# Altium integrated library Connectors other.IntLib: 52 symbols
Pins are listed as number, name and electrical type; pins without a type are passive.

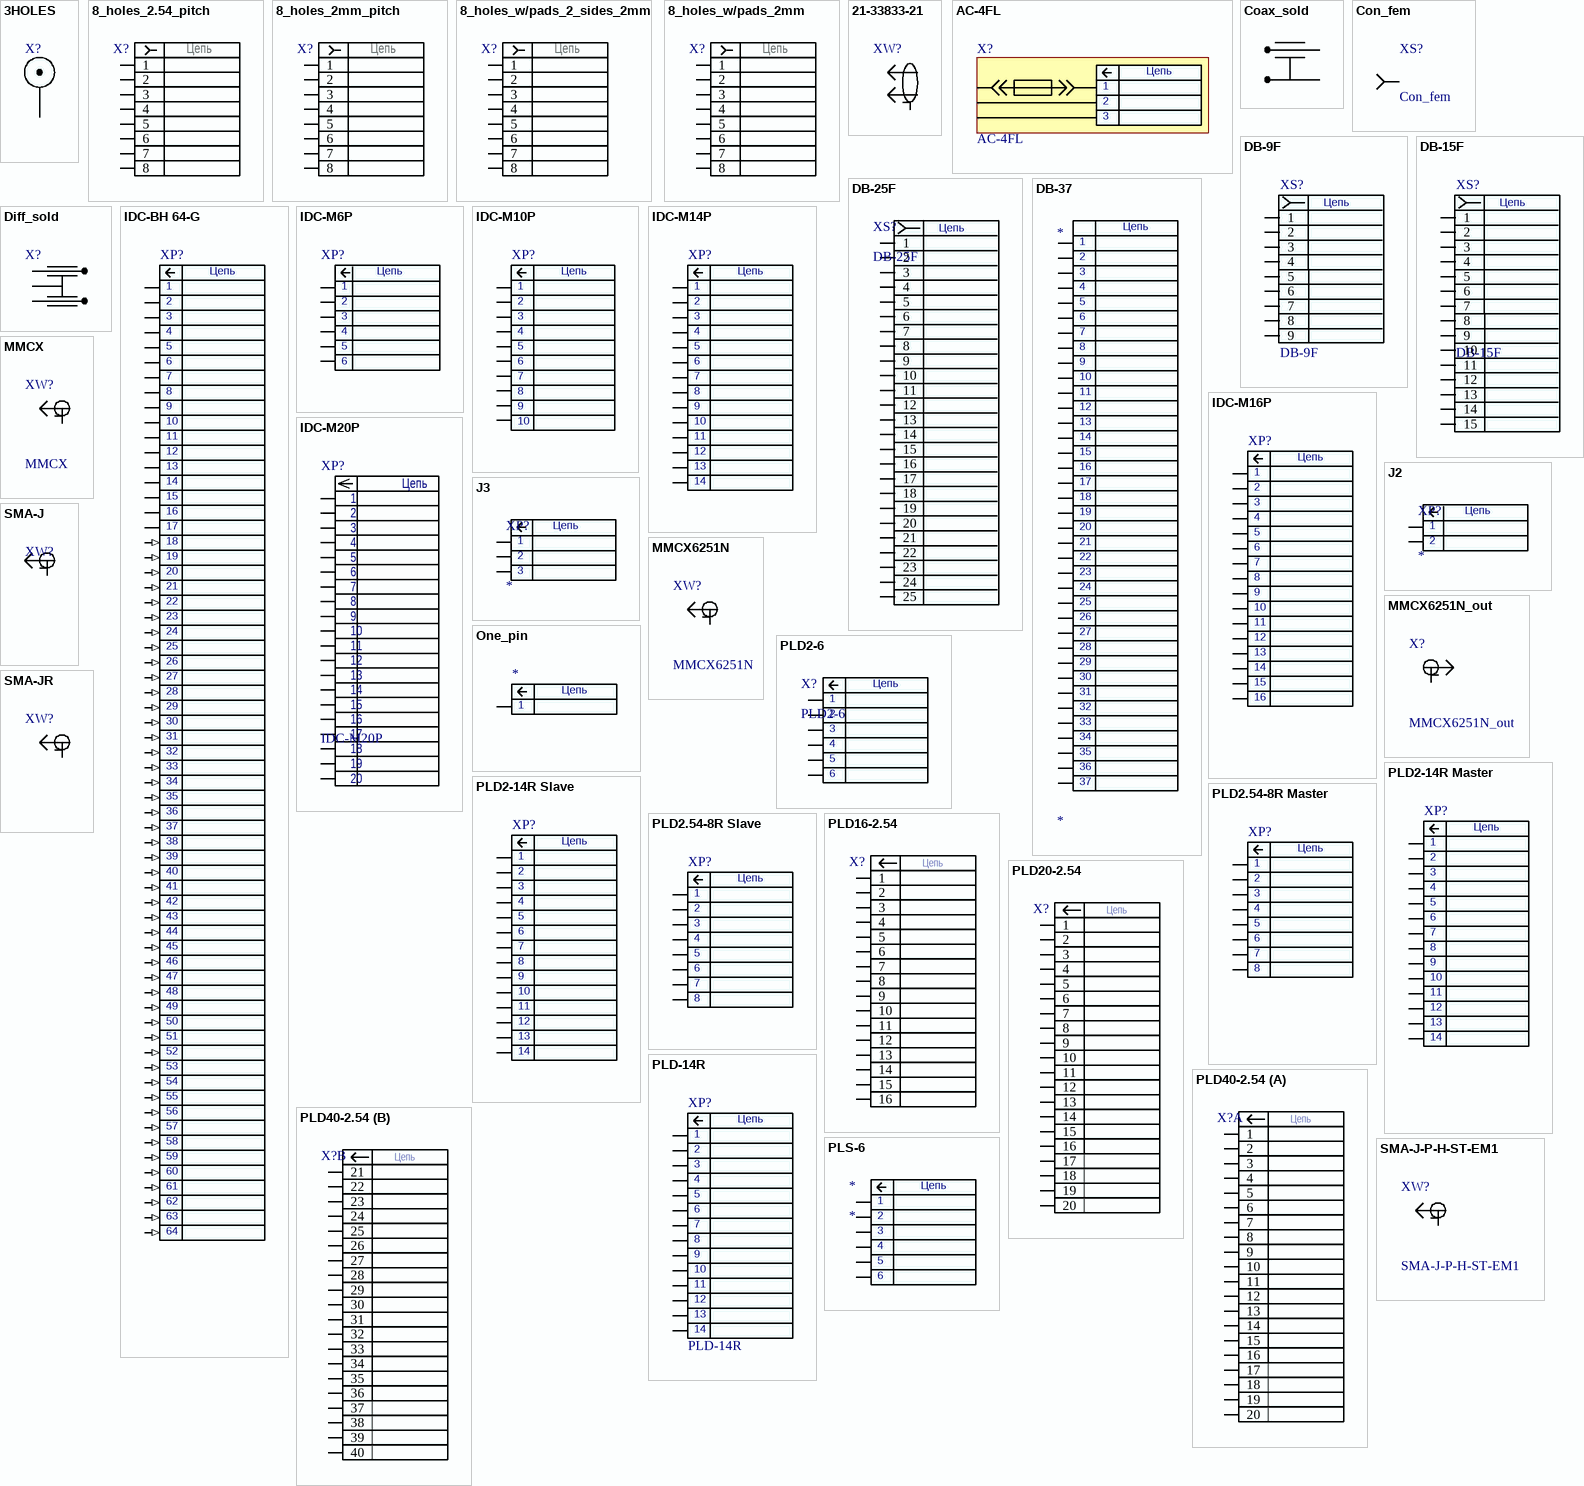
[diagram p0: symbols 3HOLES to SMA-JR]

## 3HOLES
designator X?
footprint 3Holes
pins: 1, 2 (power), 3 (power)

## 8_holes_2.54_pitch
designator X?  (value not drawn)
8_holes_2.54_pitch; ESKD: Отверстия под запайку; Creator: CSD; Created: 20.09.2013
footprint 8 holes 2.54 mm (8 holes 2.54 pitch)
pins: 1, 2, 3, 4, 5, 6, 7, 8
text: Цепь

## 8_holes_2mm_pitch
designator X?  (value not drawn)
8 holes 2mm pitch; ESKD: Отверстия под запайку; Creator: CSD; Created: 03.10.2013
footprint 8 holes 2 mm (8 holes 2 mm pitch)
pins: 1, 2, 3, 4, 5, 6, 7, 8
text: Цепь

## 8_holes_w/pads_2_sides_2mm
designator X?  (value not drawn)
8 holes with pads on 2 sides 2 mm; ESKD: Площадки под запайку; Creator: CSD; Created: 03.10.2013
footprint 8 holes with pads 2 sides 2 mm (8 holes 2mm pitch with soldering pads on 2 sides)
pins: 1, 2, 3, 4, 5, 6, 7, 8
text: Цепь

## 8_holes_w/pads_2mm
designator X?  (value not drawn)
8 holes with pads 2 mm; ESKD: Площадки под запайку; Creator: CSD; Created: 03.10.2013
footprint 8 holes with pads 2 mm (8 holes 2mm pitch with soldering pads)
pins: 1, 2, 3, 4, 5, 6, 7, 8
text: Цепь

## 21-33833-21
designator XW?  (value not drawn)
Receptacle 90 degree PCB differential twinax type C-130; Manufacturer: Amphenol; Value: 21-33833-21; Date_: 15.06.09; Creator: ksm
3D model twinax_type_c-130 (PCB3D Model)
footprint 21-33833-21 (Amphenol 90 degree pcb receptacle type C-130)
pins: 1, 2, 3, 4, 5, 6

## AC-4FL
designator X?
pins: 1, 2, 3
text: Цепь

## Coax_sold
designator X?, comment Pin for direct soldering of the wire  (value not drawn)
footprint SMD coax
pins: 1, 2

## Con_fem
designator XS?
footprint DIP1(0.5/0.8)
footprint DIP1(0.9/1.5)
pins: 1

## DB-9F
designator XS?
Manufacturer: Tyco Electronics; ESKD: 5745781-2 Tyco Electronics (или аналог); Creation_Date: 30.09.2013; Creator: TAM
footprint DB-9F
pins: 1, 2, 3, 4, 5, 6, 7, 8, 9
text: Цепь

## DB-15F
designator XS?
Manufacturer: Tyco Electronics; ESKD: 5745782-2 Tyco Electronics (или аналог); Creation_Date: 30.09.2013; Creator: TAM
footprint DB-15F
pins: 1, 2, 3, 4, 5, 6, 7, 8, 9, 10, 11, 12, 13, 14, 15
text: Цепь

## DB-25F
designator XS?
Manufacturer: Tyco Electronics; ESKD: 5745783-2 Tyco Electronics (или аналог); Creator: TAM; Creation_Date: 04.03.2013
footprint DB-25F
pins: 1, 2, 3, 4, 5, 6, 7, 8, 9, 10, 11, 12, 13, 14, 15, 16, 17, 18, 19, 20, 21, 22, 23, 24, 25
text: Цепь

## DB-37
designator *
footprint DB-37-F_2.54pitch
footprint DB-37-F_2.84pitch
pins: 1, 2, 3, 4, 5, 6, 7, 8, 9, 10, 11, 12, 13, 14, 15, 16, 17, 18, 19, 20, 21, 22, 23, 24, 25, 26, 27, 28, 29, 30, 31, 32, 33, 34, 35, 36, 37
text: Цепь

## Diff_sold
designator X?, comment 2 pins for direct soldering  (value not drawn)
footprint SMD DIFF
footprint SMD DIFF_solder
pins: 1, 2, 3, MH1 (power) hidden, MH2 (power) hidden

## IDC-BH 64-G
designator XP?
footprint IDC BH 64-G
pins: 1, 2, 3, 4, 5, 6, 7, 8, 9, 10, 11, 12, 13, 14, 15, 16, 17, 18 (in), 19 (in), 20 (in), 21 (in), 22 (in), 23 (in), 24 (in), 25 (in), 26 (in), 27 (in), 28 (in), 29 (in), 30 (in), 31 (in), 32 (in), 33 (in), 34 (in), 35 (in), 36 (in), 37 (in), 38 (in), 39 (in), 40 (in), 41 (in), 42 (in), 43 (in), 44 (in), 45 (in), 46 (in), 47 (in), 48 (in), 49 (in), 50 (in), 51 (in), 52 (in), 53 (in), 54 (in), 55 (in), 56 (in), 57 (in), 58 (in), 59 (in), 60 (in), 61 (in), 62 (in), 63 (in), 64 (in)
text: Цепь

## IDC-M6P
designator XP?
footprint IDC-M6P
pins: 1, 2, 3, 4, 5, 6
text: Цепь

## IDC-M10P
designator XP?
footprint IDC-M10P
pins: 1, 2, 3, 4, 5, 6, 7, 8, 9, 10
text: Цепь

## IDC-M14P
designator XP?
footprint IDC-M14P
pins: 1, 2, 3, 4, 5, 6, 7, 8, 9, 10, 11, 12, 13, 14
text: Цепь

## IDC-M16P
designator XP?
footprint IDC-M16P
pins: 1, 2, 3, 4, 5, 6, 7, 8, 9, 10, 11, 12, 13, 14, 15, 16
text: Цепь

## IDC-M20P
designator XP?
footprint IDC-M20P
pins: 1, 2, 3, 4, 5, 6, 7, 8, 9, 10, 11, 12, 13, 14, 15, 16, 17, 18, 19, 20
text: Цепь

## J2
designator XP?
2-pin header
footprint SIP-2
footprint PLS2-2
pins: 1 "VBUS", 2 "D-"
text: Цепь

## J3
designator XP?
3-pin header
footprint PLS2-3
footprint SIP-3
pins: 1 "VBUS", 2 "D-", 3 "D+"
text: Цепь

## MMCX
designator XW?
MMCX Coaxial Connector; Manufacturer: Any; Value: MMCX; Date_: 09.06.09; Creator: ksm
footprint MMCX6251N (Connector; RF Coaxial, MMCX, Thru-Hole; 5 Position; Straight Jack for P.C. Board)
footprint MMCX-J-P-X-ST-EM1 (Connector; RF Coaxial, MMCX, Thru-Hole; 5 Position; Straight Jack for P.C. Board)
3D model mmcx-j-p-x-st-em1 (PCB3D Model)
3D model mmcx-j-p-x-st-th1 (PCB3D Model)
pins: 1, 2, 3, 4, 5

## MMCX6251N
designator XW?
MMCX Coaxial Connector; Manufacturer: Amphenol; Value: MMCX6251N1-3GT30G-50; Date_: 19.09.08; Creator: V1ad
footprint MMCX6251N (Connector; RF Coaxial, MMCX, Thru-Hole; 5 Position; Straight Jack for P.C. Board)
3D model mmcx-j-p-x-st-th1 (PCB3D Model)
pins: 1, 2, 3, 4, 5

## MMCX6251N_out
designator X?
MMCX Coaxial Connector; Manufacturer: Amphenol; Value: MMCX6251N1-3GT30G-50; Date_: 19.09.08; Creator: V1ad
footprint MMCX6251N (Connector; RF Coaxial, MMCX, Thru-Hole; 5 Position; Straight Jack for P.C. Board)
3D model mmcx-j-p-x-st-th1 (PCB3D Model)
pins: 1, 2, 3, 4, 5

## One_pin
designator *
footprint DIP1(0.5/0.8)
pins: 1
text: Цепь

## PLD2-6
designator X?
footprint PLD2-6
pins: 1, 2, 3, 4, 5, 6
text: Цепь

## PLD2-14R Master
designator XP?
footprint PLD2-14R Master
pins: 1, 2, 3, 4, 5, 6, 7, 8, 9, 10, 11, 12, 13, 14
text: Цепь

## PLD2-14R Slave
designator XP?
footprint PLD2-14R Slave
pins: 1, 2, 3, 4, 5, 6, 7, 8, 9, 10, 11, 12, 13, 14
text: Цепь

## PLD2.54-8R Master
designator XP?
footprint PLD2.54-8R Master
pins: 1, 2, 3, 4, 5, 6, 7, 8
text: Цепь

## PLD2.54-8R Slave
designator XP?
footprint PLD2.54-8R Slave
pins: 1, 2, 3, 4, 5, 6, 7, 8
text: Цепь

## PLD16-2.54
designator X?  (value not drawn)
PLD 16 pins; ESKD: 5-103233-7 Tyco Electronics (или аналог); Editor: CSD; Creator: ksm; Created: 19.12.2012; Edited: 31.05.2013
footprint PLD16-2.54
pins: 1, 2, 3, 4, 5, 6, 7, 8, 9, 10, 11, 12, 13, 14, 15, 16
text: Цепь

## PLD20-2.54
designator X?  (value not drawn)
PLD 20 pins; ESKD: 5-103233-9 Tyco Electronics (или аналог); Editor: CSD; Creator: ksm; Created: 19.12.2012; Edited: 05.06.2013
footprint PLD20-2.54
pins: 1, 2, 3, 4, 5, 6, 7, 8, 9, 10, 11, 12, 13, 14, 15, 16, 17, 18, 19, 20
text: Цепь

## PLD40-2.54
designator X?  (value not drawn)
PLD 40 pins; ESKD: 2-826632-0 Tyco Electronics (или аналог); Editor: CSD; Creator: ksm; Created: 19.12.2012; Edited: 29.03.2013
footprint PLD40-2.54
part A pins: 1, 2, 3, 4, 5, 6, 7, 8, 9, 10, 11, 12, 13, 14, 15, 16, 17, 18, 19, 20
part B pins: 21, 22, 23, 24, 25, 26, 27, 28, 29, 30, 31, 32, 33, 34, 35, 36, 37, 38, 39, 40
part A text: Цепь
part B text: Цепь

## PLD-14R
designator XP?
Based: on PLD2-14R Master; Modified: by V1ad; CreationDate: 07.10.10
footprint PLD2-14R Master
footprint PLD-14R Master (PLD-14 right angle connector)
footprint PLD-14R Slave (PLD-14 right angle connector)
pins: 1, 2, 3, 4, 5, 6, 7, 8, 9, 10, 11, 12, 13, 14
text: Цепь

## PLS-6
designator *
footprint PLS-6
pins: 1, 2, 3, 4, 5, 6
text: Цепь

## SMA-J
designator XW?
footprint SMA-J
pins: 1, 2, 3, 4, 5

## SMA-J-P-H-ST-EM1
designator XW?
3D model sma-j-p-h-st-em1 (PCB3D Model)
footprint SMA-J-P-H-ST-EM1
pins: 1, 2, 3, 4, 5

## SMA-JR
designator XW?
footprint SMA-JR
pins: 1, 2, 3, 4, 5

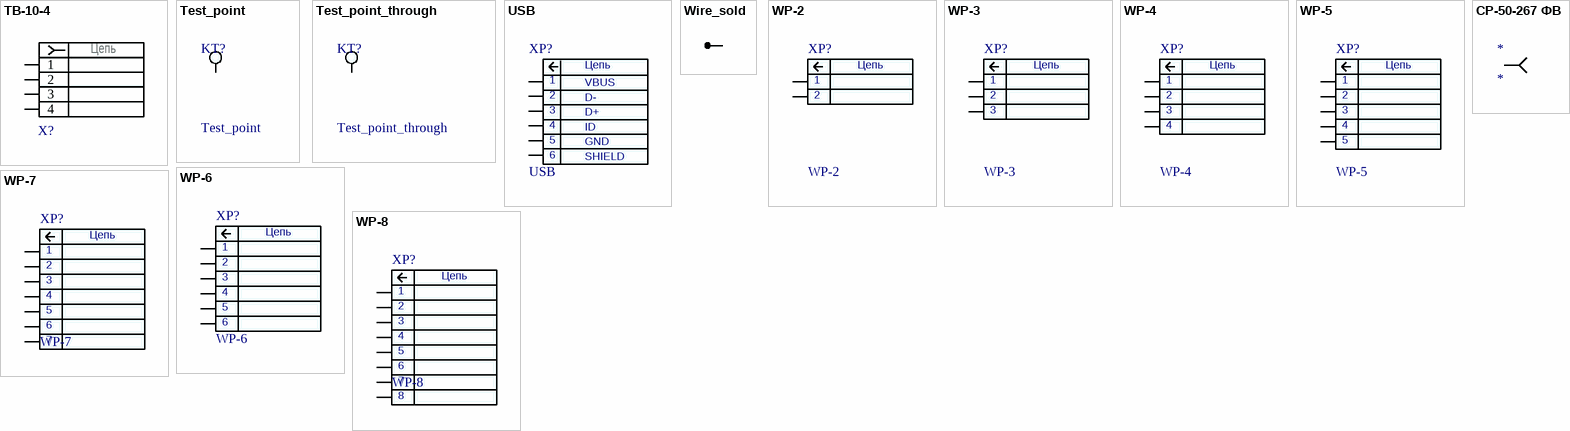
[diagram p1: symbols TB-10-4 to СР-50-267 ФВ]

## TB-10-4
designator X?
4-pin  clamp block
footprint TB-10-4 (4-pin clamp block)
pins: 1, 2, 3, 4
text: Цепь

## Test_point
designator KT?
ESKD: контрольная точка; Creator: CSD; Created: 12.10.2012
footprint Test_point
pins: 1

## Test_point_through
designator KT?
ESKD: контрольная точка; Creator: CSD; Created: 12.10.2012
footprint DIP1(1.2/1.8)
pins: 1

## USB
designator XP?
ESKD: 1-1470156 Tyco Electronics (или аналог); ESKD2: 292304-1 Tyco Electronics (или аналог); ESKD3: х-1734035-х Tyco Electronics (или аналог); Creator: Udav; Creation_Date: 23/10/13
footprint 1-1470156 (Connector; USB1.1, Type B, Thru-Hole; 4 Position; Right Angle)
footprint USB_MINI5PIN
pins: 1 "VBUS", 2 "D-", 3 "D+", 4 "ID", 5 "GND", SHIELD 6 "SHIELD"
text: Цепь; VBUS; D-; D+; ID; GND

## Wire_sold
designator X?, comment Pin for direct soldering of the wire  (value not drawn)
footprint DIP1(0.5/0.8)
footprint DIP1(0.9/1.5)
footprint DIP1(0.5/0.8) with mounting hole
footprint DIP1(0.9/1.5) with mounting hole
footprint SMD3x1.5 with MH1.2
footprint DIP1(2/3.5) with mounting hole
pins: 1

## WP-2
designator XP?
Low voltage power supply connector 2.54mm; Value: WP-2 (WP-2R); Creator: ksm; Date_: 15.02.10; Supplier: Brown Bear
footprint WF-2
footprint WF-2R
pins: 1, 2
text: Цепь

## WP-3
designator XP?
Low voltage power supply connector 2.54mm; Value: WP-3 (WP-3R); Creator: ksm; Date_: 15.02.10; Supplier: Brown Bear
footprint WF-3
footprint WF-3R
pins: 1, 2, 3
text: Цепь

## WP-4
designator XP?
Low voltage power supply connector 2.54mm; Value: WP-4 (WP-4R); Creator: ksm; Date_: 15.02.10; Supplier: Brown Bear
footprint WF-4
footprint WF-4R
pins: 1, 2, 3, 4
text: Цепь

## WP-5
designator XP?
Low voltage power supply connector 2.54mm; Value: WP-5 (WP-5R); Creator: ksm; Date_: 15.02.10; Supplier: Brown Bear
footprint WF-5
footprint WF-5R
pins: 1, 2, 3, 4, 5
text: Цепь

## WP-6
designator XP?
Low voltage power supply connector 2.54mm; Value: WP-6 (WP-6R); Creator: ksm; Date_: 15.02.10; Supplier: Brown Bear
footprint WF-6
footprint WF-6R
pins: 1, 2, 3, 4, 5, 6
text: Цепь

## WP-7
designator XP?
Low voltage power supply connector 2.54mm; Value: WP-7 (WP-7R); Creator: ksm; Date_: 15.02.10; Supplier: Brown Bear
footprint WF-7
footprint WF-7R
pins: 1, 2, 3, 4, 5, 6, 7
text: Цепь

## WP-8
designator XP?
Low voltage power supply connector 2.54mm; Value: WP-8 (WP-8R); Creator: ksm; Date_: 15.02.10; Supplier: Brown Bear
footprint WF-8
footprint WF-8R
pins: 1, 2, 3, 4, 5, 6, 7, 8
text: Цепь

## СР-50-267 ФВ
designator *
footprint SR-50-267 FV
pins: 1